# Altium schematic symbol library photoelectric_sensors.SchLib: 2 symbols
Pins are listed as number, name and electrical type; pins without a type are passive.

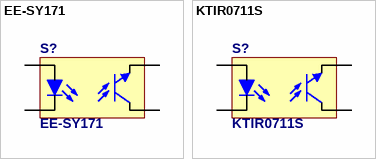
[diagram p0: symbols EE-SY171 to KTIR0711S]

## EE-SY171
designator S?
Photomicrosensor (Reflective)
pins: 1 A, 1 E, 2 K, 2 C

## KTIR0711S
designator S?
SUBMINIATURE, HIGH SENSITIVITY PHOTOINTERRUPTER
footprint KTIR0711S
footprint KTIR0711S_wide_pads
pins: 1 A, 2 E, 3 C, 4 K
1 alternate drawing of the same symbol